# Altium footprint library Connectors.PcbLib: 66 footprints (part 4 of 5)
Each footprint in its own frame and in the unit in brackets; x right, y up, seen from the top. Pads: shape width x height; smd on the part's side, far side on the other; paste and mask are expansions set on the pad; w line width, h text height; cw(c..) or ccw(c..) is an arc to the next point about the centre after c.
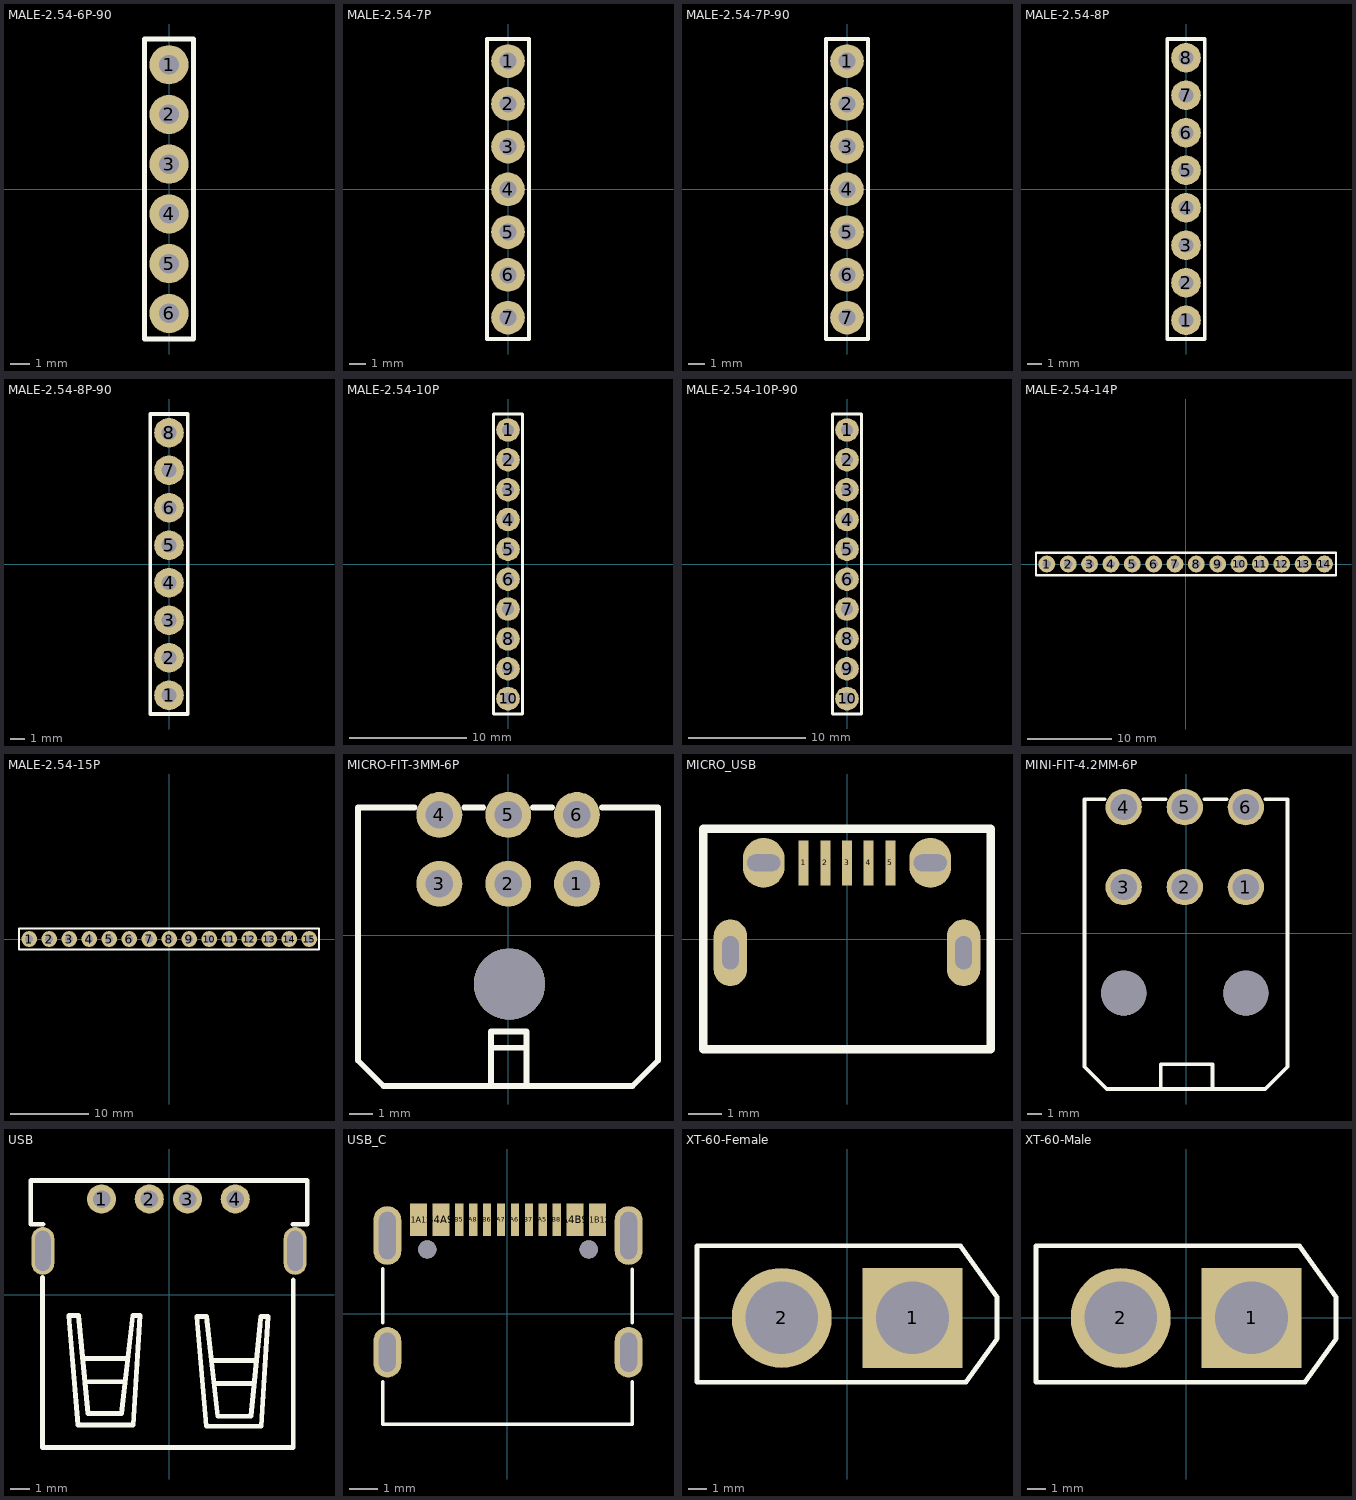
[diagram p3: the footprints below, top view; thin cyan lines are the x and y axes]

## MALE-2.54-6P-90 [mm]
pads (6):
  round 2 hole 1: 1(0,6.35) 2(0,3.81) 3(0,1.27) 4(0,-1.27) 5(0,-3.81) 6(0,-6.35)
Top Overlay:
  lines w0.254: -1.25,-7.658 1.25,-7.658 1.25,7.662 -1.25,7.662 -1.25,-7.658
3D body "MALE-2.54-6P_90.stp": height 4.4, standoff -2.8, extent -7.239,-7.62 1.231,7.62

## MALE-2.54-7P [mm]
pads (7):
  round 2 hole 1: 1(0,7.62) 2(0,5.08) 3(0,2.54) 4(0,0) 5(0,-2.54) 6(0,-5.08) 7(0,-7.62)
Top Overlay:
  lines w0.254: -1.25,-8.89 -1.25,8.932 1.25,8.932 1.25,-8.89 -1.25,-8.89
3D body "MALE-2.54-7P.STEP": height 8.4, standoff -2.8, extent -1.25,-8.848 1.25,8.932

## MALE-2.54-7P-90 [mm]
pads (7):
  round 2 hole 1: 1(0,7.62) 2(0,5.08) 3(0,2.54) 4(0,0) 5(0,-2.54) 6(0,-5.08) 7(0,-7.62)
Top Overlay:
  lines w0.254: -1.25,-8.89 1.25,-8.89 1.25,8.932 -1.25,8.932 -1.25,-8.89
3D body "MALE-2.54-7P_90.stp": height 4.4, standoff -2.8, extent -7.239,-8.89 1.231,8.89

## MALE-2.54-8P [mm]
pads (8):
  round 2 hole 1: 1(0,-8.89) 2(0,-6.35) 3(0,-3.81) 4(0,-1.27) 5(0,1.27) 6(0,3.81) 7(0,6.35) 8(0,8.89)
Top Overlay:
  lines w0.254: -1.27,-10.16 -1.27,10.16 1.27,10.16 1.27,-10.16 -1.27,-10.16
3D body "MALE-2.54-8P.STEP": height 8.36, standoff -2.74, extent -1.206,-10.167 1.193,10.153

## MALE-2.54-8P-90 [mm]
pads (8):
  round 2 hole 1: 1(0,-8.89) 2(0,-6.35) 3(0,-3.81) 4(0,-1.27) 5(0,1.27) 6(0,3.81) 7(0,6.35) 8(0,8.89)
Top Overlay:
  lines w0.254: -1.27,-10.16 1.27,-10.16 1.27,10.16 -1.27,10.16 -1.27,-10.16
3D body "MALE-2.54-8P_90.stp": height 4.4, standoff -2.8, extent -7.2,-10.16 1.27,10.16

## MALE-2.54-10P [mm]
pads (10):
  round 2 hole 1: 1(0,11.43) 2(0,8.89) 3(0,6.35) 4(0,3.81) 5(0,1.27) 6(0,-1.27) 7(0,-3.81) 8(0,-6.35) 9(0,-8.89) 10(0,-11.43)
Top Overlay:
  lines w0.254: -1.25,-12.738 1.25,-12.738 1.25,12.789 -1.25,12.789 -1.25,-12.738
3D body "MALE-2.54-10P.STEP": height 8.36, standoff -2.74, extent -1.242,-12.738 1.158,12.662

## MALE-2.54-10P-90 [mm]
pads (10):
  round 2 hole 1: 1(0,11.43) 2(0,8.89) 3(0,6.35) 4(0,3.81) 5(0,1.27) 6(0,-1.27) 7(0,-3.81) 8(0,-6.35) 9(0,-8.89) 10(0,-11.43)
Top Overlay:
  lines w0.254: -1.25,-12.738 -1.25,12.789 1.25,12.789 1.25,-12.738 -1.25,-12.738
3D body "MALE-2.54-10P_90.stp": height 4.4, standoff -2.8, extent -7.112,-12.7 1.358,12.7

## MALE-2.54-14P [mm]
pads (14):
  round 2 hole 1 paste-2539.97 mask+0.051: 1(-16.51,0) 2(-13.97,0) 3(-11.43,0) 4(-8.89,0) 5(-6.35,0) 6(-3.81,0) 7(-1.27,0) 8(1.27,0) 9(3.81,0) 10(6.35,0) 11(8.89,0) 12(11.43,0) 13(13.97,0) 14(16.51,0)
Top Overlay:
  lines w0.254: -17.803,-1.33 17.884,-1.33 17.884,1.337 -17.803,1.337 -17.803,-1.33
3D body "MALE-2.54-14P.step": height 8.89, standoff -3.05, extent -17.78,-1.27 17.78,1.27

## MALE-2.54-15P [mm]
pads (15):
  round 2 hole 1 paste-2539.97 mask+0.051: 1(-17.78,0) 2(-15.24,0) 3(-12.7,0) 4(-10.16,0) 5(-7.62,0) 6(-5.08,0) 7(-2.54,0) 8(0,0) 9(2.54,0) 10(5.08,0) 11(7.62,0) 12(10.16,0) 13(12.7,0) 14(15.24,0) 15(17.78,0)
Top Overlay:
  lines w0.254: -19.073,-1.33 -19.073,1.337 19.027,1.337 19.027,-1.33 -19.073,-1.33
3D body "MALE-2.54-15P.step": height 8.89, standoff -3.05, extent -19.05,-1.27 19.05,1.27

## MICRO-FIT-3MM-6P [mm]
pads (7):
  round 2 hole 1.2 paste-2539.97 mask+0.051: 1(3.005,2.247) 2(0.005,2.247) 3(-2.995,2.247) 4(-2.995,5.246) 5(0.005,5.246) 6(3.005,5.246)
  round 3.1 hole 3.1 unplated paste-2539.97: ""(0.061,-2.129)
Top Overlay:
  lines w0.254: -4.079,5.567 -6.543,5.567 -6.543,-5.457 -5.427,-6.574 5.427,-6.574 6.538,-5.463 6.538,5.567 4.09,5.567 ; -1.91,5.567 -1.08,5.567 ; -0.748,-6.574 -0.748,-4.202 0.802,-4.202 0.802,-6.574 ; -0.698,-4.902 0.752,-4.902 ; 1.09,5.567 1.92,5.567
3D body "MICRO_FIT_3MM_6P.step": height 8.83, standoff -3.12, extent -6.543,-6.598 6.607,5.642

## MICRO_USB [mm]
pads (9):
  rect 0.3x1.35 smd: 1(-1.3,2.286) 2(-0.65,2.286) 3(0,2.286) 4(0.65,2.286) 5(1.3,2.286)
  oval 1x2 hole 0.5 slot 1 at 90 deg: ""(-3.5,-0.414) ""(3.5,-0.414)
  oval 1.25x1.5 hole 0.5 slot 1 at 0 deg: ""(-2.5,2.286) ""(2.5,2.286)
Top Overlay:
  lines w0.254: -4.318,-3.302 -4.318,3.302 4.318,3.302 4.318,-3.302 -4.318,-3.302
3D body "USB Micro 2.stp": height 2.77, standoff -0.51, extent -4.025,-3.094 4.025,2.486

## MINI-FIT-4.2MM-6P [mm]
pads (8):
  round 2.5 hole 1.8 paste-2539.97 mask+0.051: 1(4.116,3.168) 2(-0.085,3.168) 3(-4.286,3.168) 4(-4.286,8.667) 5(-0.085,8.667) 6(4.116,8.667)
  round 3.1 hole 3.1 unplated paste-2539.97: ""(-4.285,-4.132) ""(4.115,-4.132)
Top Overlay:
  lines w0.254: -5.588,9.207 -6.985,9.207 -6.985,-9.207 -5.461,-10.731 5.461,-10.731 6.985,-9.207 6.985,9.207 5.461,9.207 ; -2.921,9.207 -1.397,9.207 ; -1.736,-10.731 -1.736,-9.024 1.82,-9.024 1.82,-10.731 ; 1.27,9.207 2.794,9.207
Mechanical 15:
  circle w1.45: c-4.285,-4.132 r0.725
  circle w1.45: c4.115,-4.132 r0.725
3D body "MINI_FIT_4.2MM_6P.step": height 11.4, standoff -3.6, extent -7.099,-10.731 7.099,9.204

## USB [mil]
pads (6):
  round 60 hole 36 paste-99999 mask+2: 1(-139,196.91) 2(-40.6,196.91) 3(38.2,196.91) 4(136.59,196.91)
  oval 47.24x98.43 hole 31.5 slot 82.68 at 90 deg paste-99999 mask+2: ""(-260,90) ""(260,90)
Top Overlay:
  lines w10: -261.05,35 -261.05,-315 256.02,-315 256.02,30 ; -260,145 -285,145 -285,235 285,235 285,145 255,145 ; -175.87,-131.91 -86.89,-131.91 ; -170.35,-179.55 -90.44,-179.55 ; 90.05,-135.81 179.03,-135.81 ; 95.56,-183.45 175.47,-183.45 ; -206.79,-42.73 -187.79,-268.73 -73.8,-268.73 -59.8,-42.73 -74.8,-42.73 -98,-244.9 -166.91,-244.9 -186.79,-42.73 -206.79,-42.73 ; 57.27,-45.31 76.77,-271.1 190.28,-271.54 204.06,-45.44 189.09,-45.44 187.91,-62.37 169.25,-250.49 100.36,-250.91 97.39,-224.21 77.31,-45.46 57.27,-45.31
3D body "USB.SLDPRT": height 301.18, standoff -147.15, extent -309.06,-317.09 309.06,240

## USB_C [mm]
pads (18):
  rect 0.6x1.15 smd: A1B12(3.22,3.364) A4B9(2.42,3.364) B1A12(-3.18,3.364) B4A9(-2.38,3.364)
  rect 0.3x1.15 smd: A5(1.27,3.364) A6(0.27,3.364) A7(-0.23,3.364) A8(-1.23,3.364) B5(-1.73,3.364) B6(-0.73,3.364) B7(0.77,3.364) B8(1.77,3.364)
  oval 1x1.8 hole 0.6 slot 1.4 at 90 deg: ""(-4.3,-1.381) ""(4.34,-1.381)
  oval 1x2.1 hole 0.6 slot 1.7 at 90 deg: ""(-4.3,2.799) ""(4.34,2.799)
  round 0.65 hole 0.65 unplated: ""(-2.87,2.298) ""(2.91,2.298)
Top Overlay:
  lines w0.125: -4.465,-2.436 -4.465,-3.962 4.465,-3.962 4.465,-2.436 ; -4.465,-0.316 -4.465,1.604 ; 4.465,-0.327 4.465,1.594
Bottom Paste:
  region: -3.8,-0.981 -3.8,-0.882 -3.876,-0.698 -4.017,-0.558 -4.2,-0.481 -4.399,-0.481 -4.583,-0.558 -4.724,-0.698 -4.8,-0.882 -4.8,-0.981 -4.8,-1.781 -4.8,-1.881 -4.724,-2.065 -4.583,-2.205 -4.399,-2.281 -4.2,-2.281 -4.017,-2.205 -3.876,-2.065 -3.8,-1.881 -3.8,-1.781
  region: 4.84,-0.981 4.84,-0.882 4.764,-0.698 4.624,-0.558 4.44,-0.481 4.241,-0.481 4.057,-0.558 3.916,-0.698 3.84,-0.882 3.84,-0.981 3.84,-1.781 3.84,-1.881 3.916,-2.065 4.057,-2.205 4.241,-2.281 4.44,-2.281 4.624,-2.205 4.764,-2.065 4.84,-1.881 4.84,-1.781
  region: -3.8,3.349 -3.8,3.448 -3.876,3.632 -4.017,3.773 -4.2,3.849 -4.399,3.849 -4.583,3.773 -4.724,3.632 -4.8,3.448 -4.8,3.349 -4.8,2.249 -4.8,2.149 -4.724,1.965 -4.583,1.825 -4.399,1.749 -4.2,1.749 -4.017,1.825 -3.876,1.965 -3.8,2.149 -3.8,2.249
  region: 4.84,3.349 4.84,3.448 4.764,3.632 4.624,3.773 4.44,3.849 4.241,3.849 4.057,3.773 3.916,3.632 3.84,3.448 3.84,3.349 3.84,2.249 3.84,2.149 3.916,1.965 4.057,1.825 4.241,1.749 4.44,1.749 4.624,1.825 4.764,1.965 4.84,2.149 4.84,2.249
  region: -2.88,3.939 -3.48,3.939 -3.48,2.789 -2.88,2.789
  region: -2.08,3.939 -2.68,3.939 -2.68,2.789 -2.08,2.789
  region: 3.52,3.939 2.92,3.939 2.92,2.789 3.52,2.789
  region: 2.72,3.939 2.12,3.939 2.12,2.789 2.72,2.789
  region: -1.58,3.939 -1.88,3.939 -1.88,2.789 -1.58,2.789
  region: -1.08,3.939 -1.38,3.939 -1.38,2.789 -1.08,2.789
  region: -0.58,3.939 -0.88,3.939 -0.88,2.789 -0.58,2.789
  region: -0.08,3.939 -0.38,3.939 -0.38,2.789 -0.08,2.789
  region: 0.42,3.939 0.12,3.939 0.12,2.789 0.42,2.789
  region: 0.92,3.939 0.62,3.939 0.62,2.789 0.92,2.789
  region: 1.42,3.939 1.12,3.939 1.12,2.789 1.42,2.789
  region: 1.92,3.939 1.62,3.939 1.62,2.789 1.92,2.789
3D body "USB_C.STEP": height 3.26, standoff -1, extent -4.47,-3.999 4.47,3.751

## XT-60-Female [mil]
pads (2):
  rect 216.5x216.5 hole 157.48: 1(141.73,0)
  round 216.5 hole 157.48: 2(-141.73,0)
Top Overlay:
  lines w10: -325.28,-139.13 257.76,-139.13 324.72,-45.38 324.72,45.39 245.81,155.87 -325.28,155.87 -325.28,-139.13
3D body "XT60Female.x_t": height 629.92, standoff -177.17, extent -323.98,-141.77 327.6,153.5

## XT-60-Male [mil]
pads (2):
  rect 216.5x216.5 hole 157.48: 1(141.73,0)
  round 216.5 hole 157.48: 2(-141.73,0)
Top Overlay:
  lines w10: -325.28,-139.13 257.76,-139.13 324.72,-45.38 324.72,45.39 245.81,155.87 -325.28,155.87 -325.28,-139.13
3D body "XT60Male.x_t": height 618.11, standoff -177.17, extent -323.98,-141.77 327.6,153.5